# EAGLE library part SKW71 (library schematic)
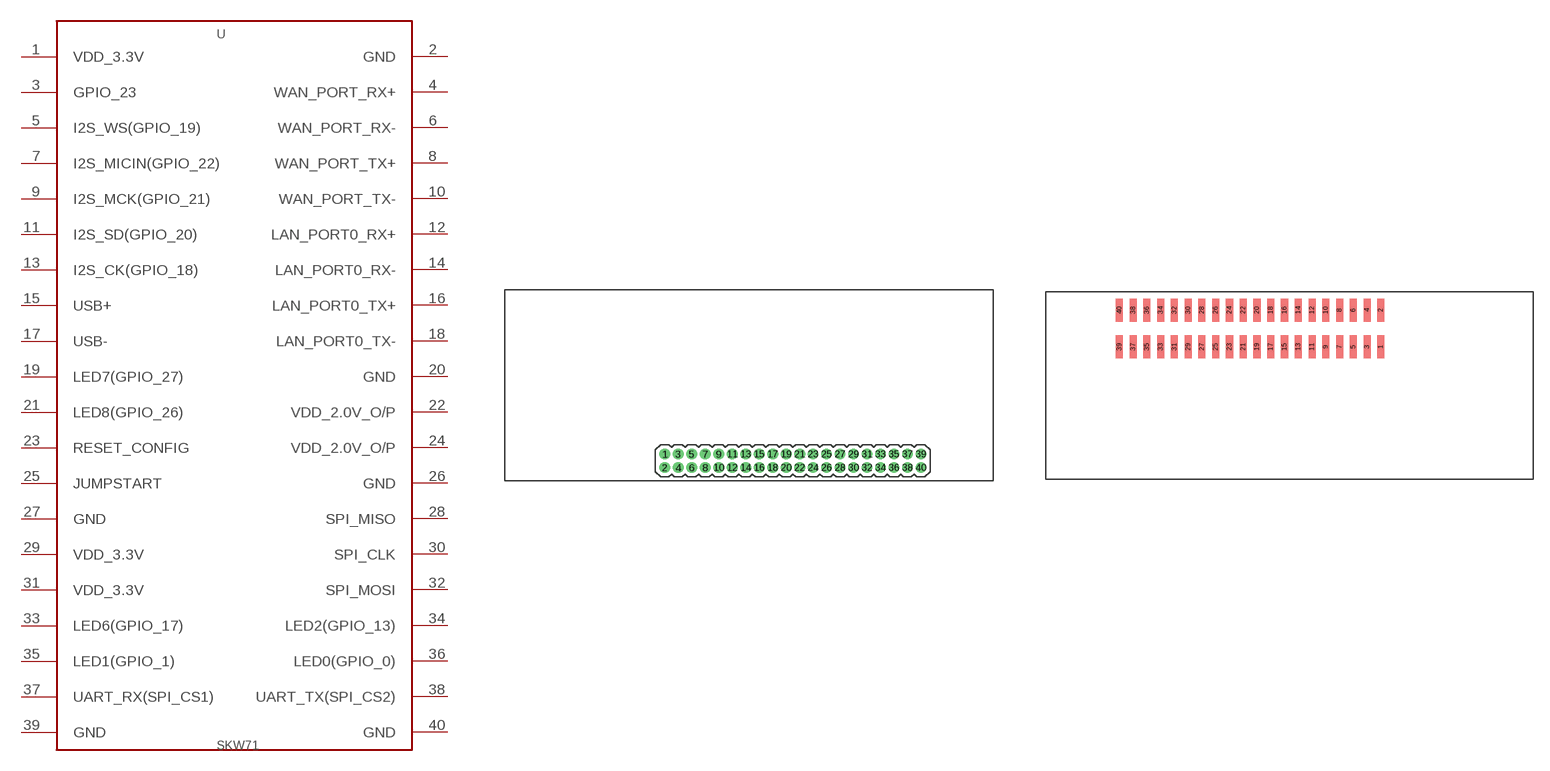
[diagram p5: symbol with the pads of SKW71; footprints SKW71, SKW71-SMT]

Designator prefix -

## SKW71  [SKW71]
1  VDD_3.3V
2  GND
3  GPIO_23
4  WAN_PORT_RX+
5  I2S_WS(GPIO_19)
6  WAN_PORT_RX-
7  I2S_MICIN(GPIO_22)
8  WAN_PORT_TX+
9  I2S_MCK(GPIO_21)
10  WAN_PORT_TX-
11  I2S_SD(GPIO_20)
12  LAN_PORT0_RX+
13  I2S_CK(GPIO_18)
14  LAN_PORT0_RX-
15  USB+
16  LAN_PORT0_TX+
17  USB-
18  LAN_PORT0_TX-
19  LED7(GPIO_27)
20  GND
21  LED8(GPIO_26)
22  VDD_2.0V_O/P
23  RESET_CONFIG
24  VDD_2.0V_O/P
25  JUMPSTART
26  GND
27  GND
28  SPI_MISO
29  VDD_3.3V
30  SPI_CLK
31  VDD_3.3V
32  SPI_MOSI
33  LED6(GPIO_17)
34  LED2(GPIO_13)
35  LED1(GPIO_1)
36  LED0(GPIO_0)
37  UART_RX(SPI_CS1)
38  UART_TX(SPI_CS2)
39  GND
40  GND

## SKW71-  [SKW71-SMT]
Pads as for SKW71

## Footprint SKW71 (pad centres in mm)
drill 0.508 pad 1: 1 -7.93,-6.46; 2 -7.93,-7.73; 3 -6.66,-6.46; 4 -6.66,-7.73; 5 -5.39,-6.46; 6 -5.39,-7.73; 7 -4.12,-6.46; 8 -4.12,-7.73; 9 -2.85,-6.46; 10 -2.85,-7.73; 11 -1.58,-6.46; 12 -1.58,-7.73; 13 -0.31,-6.46; 14 -0.31,-7.73; 15 0.96,-6.46; 16 0.96,-7.73; 17 2.23,-6.46; 18 2.23,-7.73; 19 3.5,-6.46; 20 3.5,-7.73; 21 4.77,-6.46; 22 4.77,-7.73; 23 6.04,-6.46; 24 6.04,-7.73; 25 7.31,-6.46; 26 7.31,-7.73; 27 8.58,-6.46; 28 8.58,-7.73; 29 9.85,-6.46; 30 9.85,-7.73; 31 11.12,-6.46; 32 11.12,-7.73; 33 12.39,-6.46; 34 12.39,-7.73; 35 13.66,-6.46; 36 13.66,-7.73; 37 14.93,-6.46; 38 14.93,-7.73; 39 16.2,-6.46; 40 16.2,-7.73

## Footprint SKW71-SMT (pad centres in mm)
smd 0.65 x 2.115: 1 0,0; 2 0,3.385; 3 -1.27,0; 4 -1.27,3.385; 5 -2.54,0; 6 -2.54,3.385; 7 -3.81,0; 8 -3.81,3.385; 9 -5.08,0; 10 -5.08,3.385; 11 -6.35,0; 12 -6.35,3.385; 13 -7.62,0; 14 -7.62,3.385; 15 -8.89,0; 16 -8.89,3.385; 17 -10.16,0; 18 -10.16,3.385; 19 -11.43,0; 20 -11.43,3.385; 21 -12.7,0; 22 -12.7,3.385; 23 -13.97,0; 24 -13.97,3.385; 25 -15.24,0; 26 -15.24,3.385; 27 -16.51,0; 28 -16.51,3.385; 29 -17.78,0; 30 -17.78,3.385; 31 -19.05,0; 32 -19.05,3.385; 33 -20.32,0; 34 -20.32,3.385; 35 -21.59,0; 36 -21.59,3.385; 37 -22.86,0; 38 -22.86,3.385; 39 -24.13,0; 40 -24.13,3.385